# EAGLE library part DPDT-CK_PN_2XS_SERIES (library Eagle3D-Switch)
C&K Components PN 21S / 22S Series DPDT - Right Angle Switch
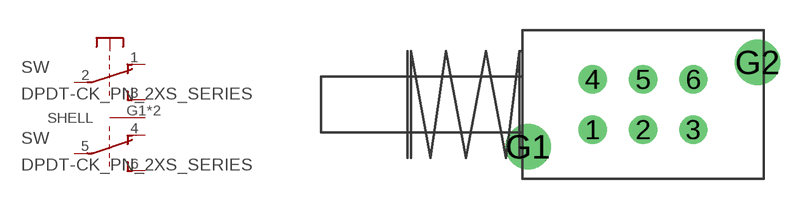
[diagram p0: symbol with the pads of CK-PN2XS; footprint CK-PN2XS]

Designator prefix SW; gates G$1=DPDT-1 G$2=DPDT-2

## DPDT-CK_PN_2XS_SERIES_MOMENTARY  [CK-PN2XS]
1  G$1:NC-1  pas
2  G$1:P-1  pas
3  G$1:NO-1  pas
4  G$2:NC-2  pas
5  G$2:P-2  pas
6  G$2:NO-2  pas
G1  G$1:SHELL
G2  G$1:SHELL

## DPDT-CK_PN_2XS_SERIES_ON/ON  [CK-PN2XS]
Pads as for CK-PN2XS

## Footprint CK-PN2XS (pad centres in mm)
C&K Components PN 21S / 22S Series DPDT - Right Angle Switch
drill 0.9: 1 -2.5,-1.25; 2 0,-1.25; 3 2.5,-1.25; 4 -2.5,1.25; 5 0,1.25; 6 2.5,1.25
drill 1.5: G1 -5.7,-2.1; G2 5.7,2.1